# EAGLE library part ARDUINO (library reprap)
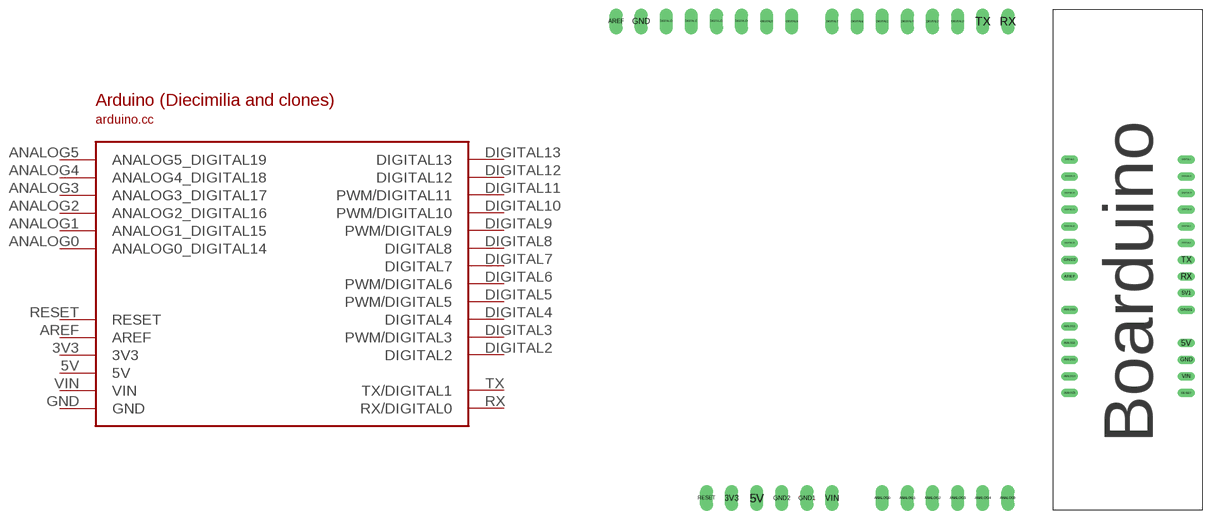
[diagram p0: symbol with the pads of ARDUINO; footprints ARDUINO, BOARDUINO]

Designator prefix -

## ARDUINODIECIMILIA  [ARDUINO]
3V3  3V3
5V  5V
ANALOG0  ANALOG0_DIGITAL14
ANALOG1  ANALOG1_DIGITAL15
ANALOG2  ANALOG2_DIGITAL16
ANALOG3  ANALOG3_DIGITAL17
ANALOG4  ANALOG4_DIGITAL18
ANALOG5  ANALOG5_DIGITAL19
AREF  AREF
DIGITAL2  DIGITAL2
DIGITAL3  PWM/DIGITAL3
DIGITAL4  DIGITAL4
DIGITAL5  PWM/DIGITAL5
DIGITAL6  PWM/DIGITAL6
DIGITAL7  DIGITAL7
DIGITAL8  DIGITAL8
DIGITAL9  PWM/DIGITAL9
DIGITAL10  PWM/DIGITAL10
DIGITAL11  PWM/DIGITAL11
DIGITAL12  DIGITAL12
DIGITAL13  DIGITAL13
GND  GND
RESET  RESET
RX  RX/DIGITAL0
TX  TX/DIGITAL1
VIN  VIN

## ARDUINO  [BOARDUINO]
5V  5V
ANALOG0  ANALOG0_DIGITAL14
ANALOG1  ANALOG1_DIGITAL15
ANALOG2  ANALOG2_DIGITAL16
ANALOG3  ANALOG3_DIGITAL17
ANALOG4  ANALOG4_DIGITAL18
ANALOG5  ANALOG5_DIGITAL19
AREF  AREF
DIGITAL2  DIGITAL2
DIGITAL3  PWM/DIGITAL3
DIGITAL4  DIGITAL4
DIGITAL5  PWM/DIGITAL5
DIGITAL6  PWM/DIGITAL6
DIGITAL7  DIGITAL7
DIGITAL8  DIGITAL8
DIGITAL9  PWM/DIGITAL9
DIGITAL10  PWM/DIGITAL10
DIGITAL11  PWM/DIGITAL11
DIGITAL12  DIGITAL12
DIGITAL13  DIGITAL13
GND  GND
GND1  3V3
RESET  RESET
RX  RX/DIGITAL0
TX  TX/DIGITAL1
VIN  VIN

## Footprint ARDUINO (pad centres in mm)
drill 0.8 long: 3V3 6.604,-45.72; 5V 9.144,-45.72; ANALOG0 21.844,-45.72; ANALOG1 24.384,-45.72; ANALOG2 26.924,-45.72; ANALOG3 29.464,-45.72; ANALOG4 32.004,-45.72; ANALOG5 34.544,-45.72; AREF -5.08,2.54; DIGITAL2 29.464,2.54; DIGITAL3 26.924,2.54; DIGITAL4 24.384,2.54; DIGITAL5 21.844,2.54; DIGITAL6 19.304,2.54; DIGITAL7 16.764,2.54; DIGITAL8 12.7,2.54; DIGITAL9 10.16,2.54; DIGITAL10 7.62,2.54; DIGITAL11 5.08,2.54; DIGITAL12 2.54,2.54; DIGITAL13 0,2.54; GND -2.54,2.54; GND1 14.224,-45.72; GND2 11.684,-45.72; RESET 4.064,-45.72; RX 34.544,2.54; TX 32.004,2.54; VIN 16.764,-45.72

## Footprint BOARDUINO (pad centres in mm)
drill 0.8 long: 5V 0,7.62; 5V1 0,15.24; ANALOG0 -17.78,12.7; ANALOG1 -17.78,10.16; ANALOG2 -17.78,7.62; ANALOG3 -17.78,5.08; ANALOG4 -17.78,2.54; ANALOG5 -17.78,0; AREF -17.78,17.78; DIGITAL2 0,22.86; DIGITAL3 0,25.4; DIGITAL4 0,27.94; DIGITAL5 0,30.48; DIGITAL6 0,33.02; DIGITAL7 0,35.56; DIGITAL8 -17.78,35.56; DIGITAL9 -17.78,33.02; DIGITAL10 -17.78,30.48; DIGITAL11 -17.78,27.94; DIGITAL12 -17.78,25.4; DIGITAL13 -17.78,22.86; GND 0,5.08; GND1 0,12.7; GND2 -17.78,20.32; RESET 0,0; RX 0,17.78; TX 0,20.32; VIN 0,2.54